# EAGLE library part DAC088S085 (library dac88s)
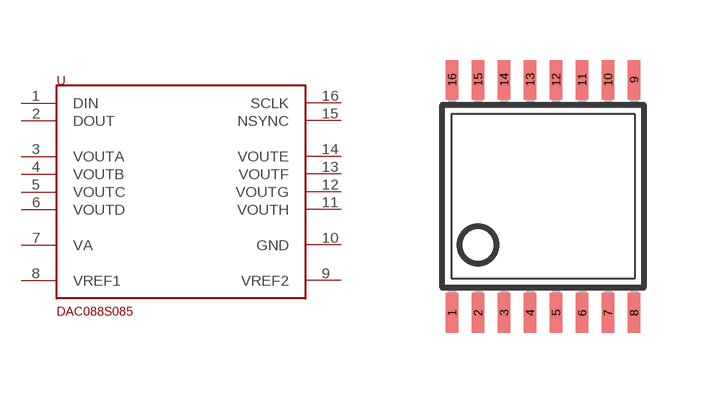
[diagram p0: symbol with the pads of TSSOP-16; footprint TSSOP-16]

Designator prefix -

## DAC088S085  [TSSOP-16]
1  DIN
2  DOUT
3  VOUTA
4  VOUTB
5  VOUTC
6  VOUTD
7  VA
8  VREF1
9  VREF2
10  GND  pwr
11  VOUTH
12  VOUTG
13  VOUTF
14  VOUTE
15  NSYNC
16  SCLK

## Footprint TSSOP-16 (pad centres in mm)
smd 0.305 x 0.991: 1 -2.275,-2.918; 2 -1.625,-2.918; 3 -0.975,-2.918; 4 -0.325,-2.918; 5 0.325,-2.918; 6 0.975,-2.918; 7 1.625,-2.918; 8 2.275,-2.918; 9 2.275,2.918; 10 1.625,2.918; 11 0.975,2.918; 12 0.325,2.918; 13 -0.325,2.918; 14 -0.975,2.918; 15 -1.625,2.918; 16 -2.275,2.918